# Altium schematic symbol library PAA5102.SchLib: 1 symbol
Pins are listed as number, name and electrical type; pins without a type are passive.

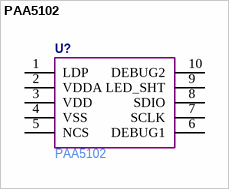
[diagram p0: symbol PAA5102]

## PAA5102
designator U?  Manufacturer Part Number: PAA5102  (hidden comment: *)
pins: 1 LDP, 2 VDDA, 3 VDD, 4 VSS, 5 NCS, 6 DEBUG1, 7 SCLK, 8 SDIO, 9 LED_SHT, 10 DEBUG2